# Altium schematic symbol library ON Semi Logic Latch.SchLib: 84 symbols (part 1 of 2)
Pins are listed as number, name and electrical type; pins without a type are passive.

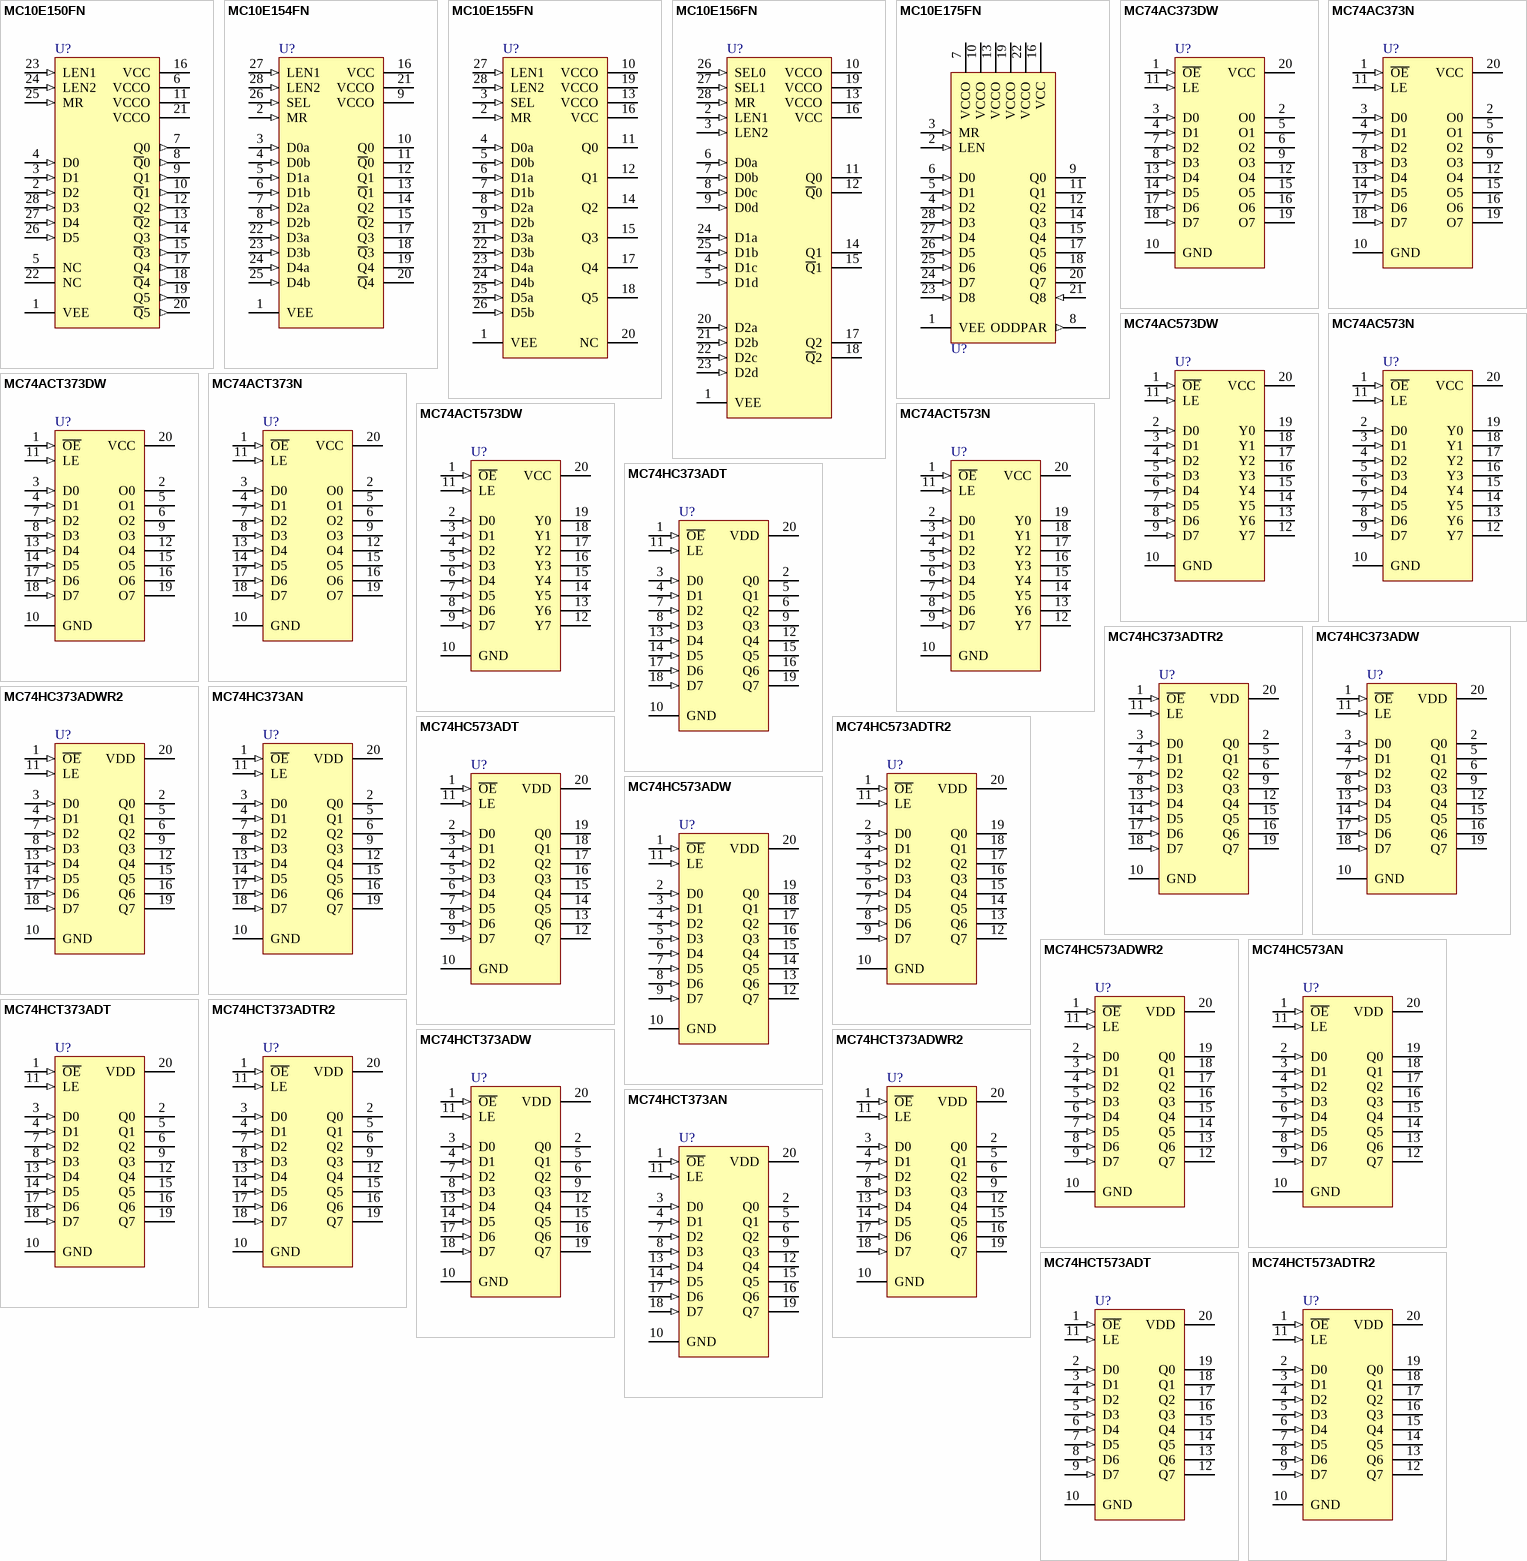
[diagram p0: symbols MC10E150FN to MC74HCT573ADTR2]

## MC10E150FN
designator U?
6-Bit D-Type Latch; Note: All VCC&VCCO pins are tied together on the die; Published: 15-Apr-2002; LatestRevisionDate: 13-Apr-2006; LatestRevisionNote: IPC-7351 Footprint Added.; DatasheetVersion: 1996; PackageVersion: Feb-2000; PackageReference: 776-02; Publisher: Altium Limited; PackageDescription: 28-Pin Leaded Chip Carrier 1.27 mm Pitch; ComponentLink1Description: Manufacturer Link; ComponentLink1URL: http://www.onsemi.com/; ComponentLink2Description: Datasheet; ComponentLink2URL: http://www.onsemi.com/pub/Collateral/MC10E150-D.PDF
footprint 776-02_N (Leaded Chip Carrier, 28-Leads, Body 11.5x11.5mm, Pitch 1.27mm, IPC Medium Density)
footprint 776-02_L (Leaded Chip Carrier, 28-Leads, Body 11.5x11.5mm, Pitch 1.27mm, IPC High Density)
footprint 776-02_M (Leaded Chip Carrier, 28-Leads, Body 11.5x11.5mm, Pitch 1.27mm, IPC Low Density)
pins: 1 VEE (power), 2 D2 (in), 3 D1 (in), 4 D0 (in), 5 NC, 6 VCCO (power), 7 Q0 (out), 8 ~{Q}0 (out), 9 Q1 (out), 10 ~{Q}1 (out), 11 VCCO (power), 12 Q2 (out), 13 ~{Q}2 (out), 14 Q3 (out), 15 ~{Q}3 (out), 16 VCC (power), 17 Q4 (out), 18 ~{Q}4 (out), 19 Q5 (out), 20 ~{Q}5 (out), 21 VCCO (power), 22 NC, 23 LEN1 (in), 24 LEN2 (in), 25 MR (in), 26 D5 (in), 27 D4 (in), 28 D3 (in)

## MC10E154FN
designator U?
5-Bit 2:1 Multiplexer-Latch; Note: All VCC&VCCO pins are tied together on the die; Published: 15-Apr-2002; LatestRevisionDate: 13-Apr-2006; LatestRevisionNote: IPC-7351 Footprint Added.; DatasheetVersion: 1996; PackageVersion: Feb-2000; PackageReference: 776-02; Publisher: Altium Limited; PackageDescription: 28-Pin Leaded Chip Carrier 1.27 mm Pitch; ComponentLink1Description: Manufacturer Link; ComponentLink1URL: http://www.onsemi.com/; ComponentLink2Description: Datasheet; ComponentLink2URL: http://www.onsemi.com/pub/Collateral/MC10E154-D.PDF
footprint 776-02_N (Leaded Chip Carrier, 28-Leads, Body 11.5x11.5mm, Pitch 1.27mm, IPC Medium Density)
footprint 776-02_L (Leaded Chip Carrier, 28-Leads, Body 11.5x11.5mm, Pitch 1.27mm, IPC High Density)
footprint 776-02_M (Leaded Chip Carrier, 28-Leads, Body 11.5x11.5mm, Pitch 1.27mm, IPC Low Density)
pins: 1 VEE (power), 2 MR (in), 3 D0a (in), 4 D0b (in), 5 D1a (in), 6 D1b (in), 7 D2a (in), 8 D2b (in), 9 VCCO (power), 10 Q0 (oe), 11 ~{Q}0 (oe), 12 Q1 (oe), 13 ~{Q}1 (oe), 14 Q2 (oe), 15 ~{Q}2 (oe), 16 VCC (power), 17 Q3 (oe), 18 ~{Q}3 (oe), 19 Q4 (oe), 20 ~{Q}4 (oe), 21 VCCO (power), 22 D3a (in), 23 D3b (in), 24 D4a (in), 25 D4b (in), 26 SEL (in), 27 LEN1 (in), 28 LEN2 (in)

## MC10E155FN
designator U?
6-Bit 2:1 Multiplexer-Latch; Note: All VCC&VCCO pins are tied together on the die; Published: 15-Apr-2002; LatestRevisionDate: 13-Apr-2006; LatestRevisionNote: IPC-7351 Footprint Added.; DatasheetVersion: 1996; PackageVersion: Feb-2000; PackageReference: 776-02; Publisher: Altium Limited; PackageDescription: 28-Pin Leaded Chip Carrier 1.27 mm Pitch; ComponentLink1Description: Manufacturer Link; ComponentLink1URL: http://www.onsemi.com/; ComponentLink2Description: Datasheet; ComponentLink2URL: http://www.onsemi.com/pub/Collateral/MC10E155-D.PDF
footprint 776-02_N (Leaded Chip Carrier, 28-Leads, Body 11.5x11.5mm, Pitch 1.27mm, IPC Medium Density)
footprint 776-02_L (Leaded Chip Carrier, 28-Leads, Body 11.5x11.5mm, Pitch 1.27mm, IPC High Density)
footprint 776-02_M (Leaded Chip Carrier, 28-Leads, Body 11.5x11.5mm, Pitch 1.27mm, IPC Low Density)
pins: 1 VEE (power), 2 MR (in), 3 SEL (in), 4 D0a (in), 5 D0b (in), 6 D1a (in), 7 D1b (in), 8 D2a (in), 9 D2b (in), 10 VCCO (power), 11 Q0 (oe), 12 Q1 (oe), 13 VCCO (power), 14 Q2 (oe), 15 Q3 (oe), 16 VCC (power), 17 Q4 (oe), 18 Q5 (oe), 19 VCCO (power), 20 NC, 21 D3a (in), 22 D3b (in), 23 D4a (in), 24 D4b (in), 25 D5a (in), 26 D5b (in), 27 LEN1 (in), 28 LEN2 (in)

## MC10E156FN
designator U?
3-Bit 4:1 Multiplexer-Latch; Note: All VCC&VCCO pins are tied together on the die; Published: 15-Apr-2002; LatestRevisionDate: 13-Apr-2006; LatestRevisionNote: IPC-7351 Footprint Added.; DatasheetVersion: 1996; PackageVersion: Feb-2000; PackageReference: 776-02; Publisher: Altium Limited; PackageDescription: 28-Pin Leaded Chip Carrier 1.27 mm Pitch; ComponentLink1Description: Manufacturer Link; ComponentLink1URL: http://www.onsemi.com/; ComponentLink2Description: Datasheet; ComponentLink2URL: http://www.onsemi.com/pub/Collateral/MC10E156-D.PDF
footprint 776-02_N (Leaded Chip Carrier, 28-Leads, Body 11.5x11.5mm, Pitch 1.27mm, IPC Medium Density)
footprint 776-02_L (Leaded Chip Carrier, 28-Leads, Body 11.5x11.5mm, Pitch 1.27mm, IPC High Density)
footprint 776-02_M (Leaded Chip Carrier, 28-Leads, Body 11.5x11.5mm, Pitch 1.27mm, IPC Low Density)
pins: 1 VEE (power), 2 LEN1 (in), 3 LEN2 (in), 4 D1c (in), 5 D1d (in), 6 D0a (in), 7 D0b (in), 8 D0c (in), 9 D0d (in), 10 VCCO (power), 11 Q0 (oe), 12 ~{Q}0 (oe), 13 VCCO (power), 14 Q1 (oe), 15 ~{Q}1 (oe), 16 VCC (power), 17 Q2 (oe), 18 ~{Q}2 (oe), 19 VCCO (power), 20 D2a (in), 21 D2b (in), 22 D2c (in), 23 D2d (in), 24 D1a (in), 25 D1b (in), 26 SEL0 (in), 27 SEL1 (in), 28 MR (in)

## MC10E175FN
designator U?
9-Bit Latch with Parity; Note: All VCC&VCCO pins are tied together on the die; Published: 15-Apr-2002; LatestRevisionDate: 13-Apr-2006; LatestRevisionNote: IPC-7351 Footprint Added.; DatasheetVersion: 1996; PackageVersion: Feb-2000; PackageReference: 776-02; Publisher: Altium Limited; PackageDescription: 28-Pin Leaded Chip Carrier 1.27 mm Pitch; ComponentLink1Description: Manufacturer Link; ComponentLink1URL: http://www.onsemi.com/; ComponentLink2Description: Datasheet; ComponentLink2URL: http://www.onsemi.com/pub/Collateral/MC10E175-D.PDF
footprint 776-02_N (Leaded Chip Carrier, 28-Leads, Body 11.5x11.5mm, Pitch 1.27mm, IPC Medium Density)
footprint 776-02_L (Leaded Chip Carrier, 28-Leads, Body 11.5x11.5mm, Pitch 1.27mm, IPC High Density)
footprint 776-02_M (Leaded Chip Carrier, 28-Leads, Body 11.5x11.5mm, Pitch 1.27mm, IPC Low Density)
pins: 1 VEE (power), 2 LEN (in), 3 MR (in), 4 D2 (in), 5 D1 (in), 6 D0 (in), 7 VCCO (power), 8 ODDPAR (out), 9 Q0 (oe), 10 VCCO (power), 11 Q1 (oe), 12 Q2 (oe), 13 VCCO (power), 14 Q3 (oe), 15 Q4 (oe), 16 VCC (power), 17 Q5 (oe), 18 Q6 (oe), 19 VCCO (power), 20 Q7 (oe), 21 Q8 (in), 22 VCCO (power), 23 D8 (in), 24 D7 (in), 25 D6 (in), 26 D5 (in), 27 D4 (in), 28 D3 (in)

## MC74AC373DW
designator U?
Octal Transparent Latch with 3-State Outputs; Published: 15-Apr-2002; LatestRevisionDate: 13-Apr-2006; LatestRevisionNote: IPC-7351 Footprint Added.; DatasheetVersion: 8-Apr-1996; PackageReference: 751D-04; Publisher: Altium Limited; PackageDescription: 20-Pin Small Outline Integrated Circuit 1.27 mm Pitch; ComponentLink1Description: Manufacturer Link; ComponentLink1URL: http://www.onsemi.com/; ComponentLink2Description: Datasheet; ComponentLink2URL: http://www.onsemi.com/pub/Collateral/MC74AC373-D.PDF
footprint 751D-04_N (SOIC, 20-Leads, Body 12.8x7.5mm, Pitch 1.27mm, IPC Medium Density)
footprint 751D-04_L (SOIC, 20-Leads, Body 12.8x7.5mm, Pitch 1.27mm, IPC High Density)
footprint 751D-04_M (SOIC, 20-Leads, Body 12.8x7.5mm, Pitch 1.27mm, IPC Low Density)
signal-integrity model MC74AC373DW
pins: 1 ~{OE} (in), 2 O0 (hiz), 3 D0 (in), 4 D1 (in), 5 O1 (hiz), 6 O2 (hiz), 7 D2 (in), 8 D3 (in), 9 O3 (hiz), 10 GND (power), 11 LE (in), 12 O4 (hiz), 13 D4 (in), 14 D5 (in), 15 O5 (hiz), 16 O6 (hiz), 17 D6 (in), 18 D7 (in), 19 O7 (hiz), 20 VCC (power)

## MC74AC373N
designator U?
Octal Transparent Latch with 3-State Outputs; Published: 15-Apr-2002; DatasheetVersion: 8-Apr-1996; PackageVersion: 1996; PackageReference: 738-03; Publisher: Altium Limited; PackageDescription: DIP; 20 Leads; Row Spacing 7.62 mm; Pitch 2.54 mm; Code_JEDEC: MS-001-AD; ComponentLink1Description: Manufacturer Link; ComponentLink1URL: http://www.onsemi.com/; ComponentLink2Description: Datasheet; ComponentLink2URL: http://www.onsemi.com/pub/Collateral/MC74AC373-D.PDF
footprint 738-03 (DIP; 20 Leads; Row Spacing 7.62 mm; Pitch 2.54 mm)
signal-integrity model MC74AC373N
pins: 1 ~{OE} (in), 2 O0 (hiz), 3 D0 (in), 4 D1 (in), 5 O1 (hiz), 6 O2 (hiz), 7 D2 (in), 8 D3 (in), 9 O3 (hiz), 10 GND (power), 11 LE (in), 12 O4 (hiz), 13 D4 (in), 14 D5 (in), 15 O5 (hiz), 16 O6 (hiz), 17 D6 (in), 18 D7 (in), 19 O7 (hiz), 20 VCC (power)

## MC74AC573DW
designator U?
Octal D-Type Latch with 3-State Outputs; Published: 15-Apr-2002; LatestRevisionDate: 27-Jun-2008; LatestRevisionNote: Swapped schematic pins 7 & 8.; DatasheetVersion: 9-Apr-1996; PackageReference: 751D-04; Publisher: Altium Limited; PackageDescription: 20-Pin Small Outline Integrated Circuit 1.27 mm Pitch; ComponentLink1Description: Manufacturer Link; ComponentLink1URL: http://www.onsemi.com/; ComponentLink2Description: Datasheet; ComponentLink2URL: http://www.onsemi.com/pub/Collateral/MC74AC573-D.PDF
footprint 751D-04_N (SOIC, 20-Leads, Body 12.8x7.5mm, Pitch 1.27mm, IPC Medium Density)
footprint 751D-04_L (SOIC, 20-Leads, Body 12.8x7.5mm, Pitch 1.27mm, IPC High Density)
footprint 751D-04_M (SOIC, 20-Leads, Body 12.8x7.5mm, Pitch 1.27mm, IPC Low Density)
signal-integrity model MC74AC573DW
pins: 1 ~{OE} (in), 2 D0 (in), 3 D1 (in), 4 D2 (in), 5 D3 (in), 6 D4 (in), 7 D5 (in), 8 D6 (in), 9 D7 (in), 10 GND (power), 11 LE (in), 12 Y7 (hiz), 13 Y6 (hiz), 14 Y5 (hiz), 15 Y4 (hiz), 16 Y3 (hiz), 17 Y2 (hiz), 18 Y1 (hiz), 19 Y0 (hiz), 20 VCC (power)

## MC74AC573N
designator U?
Octal D-Type Latch with 3-State Outputs; Published: 15-Apr-2002; LatestRevisionDate: 27-Jun-2008; LatestRevisionNote: Swapped schematic pins 7 & 8.; DatasheetVersion: 9-Apr-1996; PackageVersion: 1996; PackageReference: 738-03; Publisher: Altium Limited; PackageDescription: DIP; 20 Leads; Row Spacing 7.62 mm; Pitch 2.54 mm; Code_JEDEC: MS-001-AD; ComponentLink1Description: Manufacturer Link; ComponentLink1URL: http://www.onsemi.com/; ComponentLink2Description: Datasheet; ComponentLink2URL: http://www.onsemi.com/pub/Collateral/MC74AC573-D.PDF
footprint 738-03 (DIP; 20 Leads; Row Spacing 7.62 mm; Pitch 2.54 mm)
signal-integrity model MC74AC573N
pins: 1 ~{OE} (in), 2 D0 (in), 3 D1 (in), 4 D2 (in), 5 D3 (in), 6 D4 (in), 7 D5 (in), 8 D6 (in), 9 D7 (in), 10 GND (power), 11 LE (in), 12 Y7 (hiz), 13 Y6 (hiz), 14 Y5 (hiz), 15 Y4 (hiz), 16 Y3 (hiz), 17 Y2 (hiz), 18 Y1 (hiz), 19 Y0 (hiz), 20 VCC (power)

## MC74ACT373DW
designator U?
Octal Transparent Latch with 3-State Outputs; Published: 15-Apr-2002; LatestRevisionDate: 13-Apr-2006; LatestRevisionNote: IPC-7351 Footprint Added.; DatasheetVersion: 8-Apr-1996; PackageReference: 751D-04; Publisher: Altium Limited; PackageDescription: 20-Pin Small Outline Integrated Circuit 1.27 mm Pitch; ComponentLink1Description: Manufacturer Link; ComponentLink1URL: http://www.onsemi.com/; ComponentLink2Description: Datasheet; ComponentLink2URL: http://www.onsemi.com/pub/Collateral/MC74AC373-D.PDF
footprint 751D-04_N (SOIC, 20-Leads, Body 12.8x7.5mm, Pitch 1.27mm, IPC Medium Density)
footprint 751D-04_L (SOIC, 20-Leads, Body 12.8x7.5mm, Pitch 1.27mm, IPC High Density)
footprint 751D-04_M (SOIC, 20-Leads, Body 12.8x7.5mm, Pitch 1.27mm, IPC Low Density)
signal-integrity model MC74ACT373DW
pins: 1 ~{OE} (in), 2 O0 (hiz), 3 D0 (in), 4 D1 (in), 5 O1 (hiz), 6 O2 (hiz), 7 D2 (in), 8 D3 (in), 9 O3 (hiz), 10 GND (power), 11 LE (in), 12 O4 (hiz), 13 D4 (in), 14 D5 (in), 15 O5 (hiz), 16 O6 (hiz), 17 D6 (in), 18 D7 (in), 19 O7 (hiz), 20 VCC (power)

## MC74ACT373N
designator U?
Octal Transparent Latch with 3-State Outputs; Published: 15-Apr-2002; DatasheetVersion: 8-Apr-1996; PackageVersion: 1996; PackageReference: 738-03; Publisher: Altium Limited; PackageDescription: DIP; 20 Leads; Row Spacing 7.62 mm; Pitch 2.54 mm; Code_JEDEC: MS-001-AD; ComponentLink1Description: Manufacturer Link; ComponentLink1URL: http://www.onsemi.com/; ComponentLink2Description: Datasheet; ComponentLink2URL: http://www.onsemi.com/pub/Collateral/MC74AC373-D.PDF
footprint 738-03 (DIP; 20 Leads; Row Spacing 7.62 mm; Pitch 2.54 mm)
signal-integrity model MC74ACT373N
pins: 1 ~{OE} (in), 2 O0 (hiz), 3 D0 (in), 4 D1 (in), 5 O1 (hiz), 6 O2 (hiz), 7 D2 (in), 8 D3 (in), 9 O3 (hiz), 10 GND (power), 11 LE (in), 12 O4 (hiz), 13 D4 (in), 14 D5 (in), 15 O5 (hiz), 16 O6 (hiz), 17 D6 (in), 18 D7 (in), 19 O7 (hiz), 20 VCC (power)

## MC74ACT573DW
designator U?
Octal D-Type Latch with 3-State Outputs; Published: 15-Apr-2002; LatestRevisionDate: 27-Jun-2008; LatestRevisionNote: Swapped schematic pins 7 & 8.; DatasheetVersion: 9-Apr-1996; PackageReference: 751D-04; Publisher: Altium Limited; PackageDescription: 20-Pin Small Outline Integrated Circuit 1.27 mm Pitch; ComponentLink1Description: Manufacturer Link; ComponentLink1URL: http://www.onsemi.com/; ComponentLink2Description: Datasheet; ComponentLink2URL: http://www.onsemi.com/pub/Collateral/MC74AC573-D.PDF
footprint 751D-04_N (SOIC, 20-Leads, Body 12.8x7.5mm, Pitch 1.27mm, IPC Medium Density)
footprint 751D-04_L (SOIC, 20-Leads, Body 12.8x7.5mm, Pitch 1.27mm, IPC High Density)
footprint 751D-04_M (SOIC, 20-Leads, Body 12.8x7.5mm, Pitch 1.27mm, IPC Low Density)
signal-integrity model MC74ACT573DW
pins: 1 ~{OE} (in), 2 D0 (in), 3 D1 (in), 4 D2 (in), 5 D3 (in), 6 D4 (in), 7 D5 (in), 8 D6 (in), 9 D7 (in), 10 GND (power), 11 LE (in), 12 Y7 (hiz), 13 Y6 (hiz), 14 Y5 (hiz), 15 Y4 (hiz), 16 Y3 (hiz), 17 Y2 (hiz), 18 Y1 (hiz), 19 Y0 (hiz), 20 VCC (power)

## MC74ACT573N
designator U?
Octal D-Type Latch with 3-State Outputs; Published: 15-Apr-2002; LatestRevisionDate: 27-Jun-2008; LatestRevisionNote: Swapped schematic pins 7 & 8.; DatasheetVersion: 9-Apr-1996; PackageVersion: 1996; PackageReference: 738-03; Publisher: Altium Limited; PackageDescription: DIP; 20 Leads; Row Spacing 7.62 mm; Pitch 2.54 mm; Code_JEDEC: MS-001-AD; ComponentLink1Description: Manufacturer Link; ComponentLink1URL: http://www.onsemi.com/; ComponentLink2Description: Datasheet; ComponentLink2URL: http://www.onsemi.com/pub/Collateral/MC74AC573-D.PDF
footprint 738-03 (DIP; 20 Leads; Row Spacing 7.62 mm; Pitch 2.54 mm)
signal-integrity model MC74ACT573N
pins: 1 ~{OE} (in), 2 D0 (in), 3 D1 (in), 4 D2 (in), 5 D3 (in), 6 D4 (in), 7 D5 (in), 8 D6 (in), 9 D7 (in), 10 GND (power), 11 LE (in), 12 Y7 (hiz), 13 Y6 (hiz), 14 Y5 (hiz), 15 Y4 (hiz), 16 Y3 (hiz), 17 Y2 (hiz), 18 Y1 (hiz), 19 Y0 (hiz), 20 VCC (power)

## MC74HC373ADT
designator U?
Octal 3-State Non-Inverting Transparent Latch; Published: 15-Apr-2002; LatestRevisionDate: 12-Dec-2006; LatestRevisionNote: IPC-7351 Footprint Added.; DatasheetVersion: Mar-2000; PackageVersion: Mar-2000; PackageReference: 948E-02; Publisher: Altium Limited; PackageDescription: 20-Pin Thin Small Outline Package 0.65 mm Pitch; ComponentLink1Description: Manufacturer Link; ComponentLink1URL: http://www.onsemi.com/; ComponentLink2Description: Datasheet; ComponentLink2URL: http://www.onsemi.com/pub/Collateral/MC74HC373A-D.PDF
footprint 948E-02_N (TSOP, 20-Leads, Body 6.5x4.4mm, Pitch 0.65mm, IPC Medium Density)
footprint 948E-02_L (TSOP, 20-Leads, Body 6.5x4.4mm, Pitch 0.65mm, IPC High Density)
footprint 948E-02_M (TSOP, 20-Leads, Body 6.5x4.4mm, Pitch 0.65mm, IPC Low Density)
signal-integrity model MC74HC373ADT
pins: 1 ~{OE} (in), 2 Q0 (hiz), 3 D0 (in), 4 D1 (in), 5 Q1 (hiz), 6 Q2 (hiz), 7 D2 (in), 8 D3 (in), 9 Q3 (hiz), 10 GND (power), 11 LE (in), 12 Q4 (hiz), 13 D4 (in), 14 D5 (in), 15 Q5 (hiz), 16 Q6 (hiz), 17 D6 (in), 18 D7 (in), 19 Q7 (hiz), 20 VDD (power)

## MC74HC373ADTR2
designator U?
Octal 3-State Non-Inverting Transparent Latch; Published: 15-Apr-2002; LatestRevisionDate: 12-Dec-2006; LatestRevisionNote: IPC-7351 Footprint Added.; DatasheetVersion: Mar-2000; PackageVersion: Mar-2000; PackageReference: 948E-02; Publisher: Altium Limited; PackageDescription: 20-Pin Thin Small Outline Package 0.65 mm Pitch; ComponentLink1Description: Manufacturer Link; ComponentLink1URL: http://www.onsemi.com/; ComponentLink2Description: Datasheet; ComponentLink2URL: http://www.onsemi.com/pub/Collateral/MC74HC373A-D.PDF
footprint 948E-02_N (TSOP, 20-Leads, Body 6.5x4.4mm, Pitch 0.65mm, IPC Medium Density)
footprint 948E-02_L (TSOP, 20-Leads, Body 6.5x4.4mm, Pitch 0.65mm, IPC High Density)
footprint 948E-02_M (TSOP, 20-Leads, Body 6.5x4.4mm, Pitch 0.65mm, IPC Low Density)
signal-integrity model MC74HC373ADTR2
pins: 1 ~{OE} (in), 2 Q0 (hiz), 3 D0 (in), 4 D1 (in), 5 Q1 (hiz), 6 Q2 (hiz), 7 D2 (in), 8 D3 (in), 9 Q3 (hiz), 10 GND (power), 11 LE (in), 12 Q4 (hiz), 13 D4 (in), 14 D5 (in), 15 Q5 (hiz), 16 Q6 (hiz), 17 D6 (in), 18 D7 (in), 19 Q7 (hiz), 20 VDD (power)

## MC74HC373ADW
designator U?
Octal 3-State Non-Inverting Transparent Latch; Published: 15-Apr-2002; LatestRevisionDate: 13-Apr-2006; LatestRevisionNote: IPC-7351 Footprint Added.; DatasheetVersion: Mar-2000; PackageReference: 751D-05; Publisher: Altium Limited; PackageDescription: 20-Pin Small Outline Integrated Circuit 1.27 mm Pitch; ComponentLink1Description: Manufacturer Link; ComponentLink1URL: http://www.onsemi.com/; ComponentLink2Description: Datasheet; ComponentLink2URL: http://www.onsemi.com/pub/Collateral/MC74HC373A-D.PDF
footprint 751D-05_N (SOIC, 20-Leads, Body 12.8x7.5mm, Pitch 1.27mm, IPC Medium Density)
footprint 751D-05_L (SOIC, 20-Leads, Body 12.8x7.5mm, Pitch 1.27mm, IPC High Density)
footprint 751D-05_M (SOIC, 20-Leads, Body 12.8x7.5mm, Pitch 1.27mm, IPC Low Density)
signal-integrity model MC74HC373ADW
pins: 1 ~{OE} (in), 2 Q0 (hiz), 3 D0 (in), 4 D1 (in), 5 Q1 (hiz), 6 Q2 (hiz), 7 D2 (in), 8 D3 (in), 9 Q3 (hiz), 10 GND (power), 11 LE (in), 12 Q4 (hiz), 13 D4 (in), 14 D5 (in), 15 Q5 (hiz), 16 Q6 (hiz), 17 D6 (in), 18 D7 (in), 19 Q7 (hiz), 20 VDD (power)

## MC74HC373ADWR2
designator U?
Octal 3-State Non-Inverting Transparent Latch; Published: 15-Apr-2002; LatestRevisionDate: 13-Apr-2006; LatestRevisionNote: IPC-7351 Footprint Added.; DatasheetVersion: Mar-2000; PackageReference: 751D-05; Publisher: Altium Limited; PackageDescription: 20-Pin Small Outline Integrated Circuit 1.27 mm Pitch; ComponentLink1Description: Manufacturer Link; ComponentLink1URL: http://www.onsemi.com/; ComponentLink2Description: Datasheet; ComponentLink2URL: http://www.onsemi.com/pub/Collateral/MC74HC373A-D.PDF
footprint 751D-05_N (SOIC, 20-Leads, Body 12.8x7.5mm, Pitch 1.27mm, IPC Medium Density)
footprint 751D-05_L (SOIC, 20-Leads, Body 12.8x7.5mm, Pitch 1.27mm, IPC High Density)
footprint 751D-05_M (SOIC, 20-Leads, Body 12.8x7.5mm, Pitch 1.27mm, IPC Low Density)
signal-integrity model MC74HC373ADWR2
pins: 1 ~{OE} (in), 2 Q0 (hiz), 3 D0 (in), 4 D1 (in), 5 Q1 (hiz), 6 Q2 (hiz), 7 D2 (in), 8 D3 (in), 9 Q3 (hiz), 10 GND (power), 11 LE (in), 12 Q4 (hiz), 13 D4 (in), 14 D5 (in), 15 Q5 (hiz), 16 Q6 (hiz), 17 D6 (in), 18 D7 (in), 19 Q7 (hiz), 20 VDD (power)

## MC74HC373AN
designator U?
Octal 3-State Non-Inverting Transparent Latch; Published: 15-Apr-2002; DatasheetVersion: Mar-2000; PackageVersion: 1996; PackageReference: 738-03; Publisher: Altium Limited; PackageDescription: DIP; 20 Leads; Row Spacing 7.62 mm; Pitch 2.54 mm; Code_JEDEC: MS-001-AD; ComponentLink1Description: Manufacturer Link; ComponentLink1URL: http://www.onsemi.com/; ComponentLink2Description: Datasheet; ComponentLink2URL: http://www.onsemi.com/pub/Collateral/MC74HC373A-D.PDF
footprint 738-03 (DIP; 20 Leads; Row Spacing 7.62 mm; Pitch 2.54 mm)
signal-integrity model MC74HC373AN
pins: 1 ~{OE} (in), 2 Q0 (hiz), 3 D0 (in), 4 D1 (in), 5 Q1 (hiz), 6 Q2 (hiz), 7 D2 (in), 8 D3 (in), 9 Q3 (hiz), 10 GND (power), 11 LE (in), 12 Q4 (hiz), 13 D4 (in), 14 D5 (in), 15 Q5 (hiz), 16 Q6 (hiz), 17 D6 (in), 18 D7 (in), 19 Q7 (hiz), 20 VDD (power)

## MC74HC573ADT
designator U?
Octal 3-State Non-Inverting Transparent Latch; Published: 15-Apr-2002; LatestRevisionDate: 12-Dec-2006; LatestRevisionNote: IPC-7351 Footprint Added.; DatasheetVersion: Mar-2000; PackageVersion: Mar-2000; PackageReference: 948E-02; Publisher: Altium Limited; PackageDescription: 20-Pin Thin Small Outline Package 0.65 mm Pitch; ComponentLink1Description: Manufacturer Link; ComponentLink1URL: http://www.onsemi.com/; ComponentLink2Description: Datasheet; ComponentLink2URL: http://www.onsemi.com/pub/Collateral/MC74HC573A-D.PDF
footprint 948E-02_N (TSOP, 20-Leads, Body 6.5x4.4mm, Pitch 0.65mm, IPC Medium Density)
footprint 948E-02_L (TSOP, 20-Leads, Body 6.5x4.4mm, Pitch 0.65mm, IPC High Density)
footprint 948E-02_M (TSOP, 20-Leads, Body 6.5x4.4mm, Pitch 0.65mm, IPC Low Density)
signal-integrity model MC74HC573ADT
pins: 1 ~{OE} (in), 2 D0 (in), 3 D1 (in), 4 D2 (in), 5 D3 (in), 6 D4 (in), 7 D5 (in), 8 D6 (in), 9 D7 (in), 10 GND (power), 11 LE (in), 12 Q7 (hiz), 13 Q6 (hiz), 14 Q5 (hiz), 15 Q4 (hiz), 16 Q3 (hiz), 17 Q2 (hiz), 18 Q1 (hiz), 19 Q0 (hiz), 20 VDD (power)

## MC74HC573ADTR2
designator U?
Octal 3-State Non-Inverting Transparent Latch; Published: 15-Apr-2002; LatestRevisionDate: 12-Dec-2006; LatestRevisionNote: IPC-7351 Footprint Added.; DatasheetVersion: Mar-2000; PackageVersion: Mar-2000; PackageReference: 948E-02; Publisher: Altium Limited; PackageDescription: 20-Pin Thin Small Outline Package 0.65 mm Pitch; ComponentLink1Description: Manufacturer Link; ComponentLink1URL: http://www.onsemi.com/; ComponentLink2Description: Datasheet; ComponentLink2URL: http://www.onsemi.com/pub/Collateral/MC74HC573A-D.PDF
footprint 948E-02_N (TSOP, 20-Leads, Body 6.5x4.4mm, Pitch 0.65mm, IPC Medium Density)
footprint 948E-02_L (TSOP, 20-Leads, Body 6.5x4.4mm, Pitch 0.65mm, IPC High Density)
footprint 948E-02_M (TSOP, 20-Leads, Body 6.5x4.4mm, Pitch 0.65mm, IPC Low Density)
signal-integrity model MC74HC573ADTR2
pins: 1 ~{OE} (in), 2 D0 (in), 3 D1 (in), 4 D2 (in), 5 D3 (in), 6 D4 (in), 7 D5 (in), 8 D6 (in), 9 D7 (in), 10 GND (power), 11 LE (in), 12 Q7 (hiz), 13 Q6 (hiz), 14 Q5 (hiz), 15 Q4 (hiz), 16 Q3 (hiz), 17 Q2 (hiz), 18 Q1 (hiz), 19 Q0 (hiz), 20 VDD (power)

## MC74HC573ADW
designator U?
Octal 3-State Non-Inverting Transparent Latch; Published: 15-Apr-2002; LatestRevisionDate: 13-Apr-2006; LatestRevisionNote: IPC-7351 Footprint Added.; DatasheetVersion: Mar-2000; PackageReference: 751D-05; Publisher: Altium Limited; PackageDescription: 20-Pin Small Outline Integrated Circuit 1.27 mm Pitch; ComponentLink1Description: Manufacturer Link; ComponentLink1URL: http://www.onsemi.com/; ComponentLink2Description: Datasheet; ComponentLink2URL: http://www.onsemi.com/pub/Collateral/MC74HC573A-D.PDF
footprint 751D-05_N (SOIC, 20-Leads, Body 12.8x7.5mm, Pitch 1.27mm, IPC Medium Density)
footprint 751D-05_L (SOIC, 20-Leads, Body 12.8x7.5mm, Pitch 1.27mm, IPC High Density)
footprint 751D-05_M (SOIC, 20-Leads, Body 12.8x7.5mm, Pitch 1.27mm, IPC Low Density)
signal-integrity model MC74HC573ADW
pins: 1 ~{OE} (in), 2 D0 (in), 3 D1 (in), 4 D2 (in), 5 D3 (in), 6 D4 (in), 7 D5 (in), 8 D6 (in), 9 D7 (in), 10 GND (power), 11 LE (in), 12 Q7 (hiz), 13 Q6 (hiz), 14 Q5 (hiz), 15 Q4 (hiz), 16 Q3 (hiz), 17 Q2 (hiz), 18 Q1 (hiz), 19 Q0 (hiz), 20 VDD (power)

## MC74HC573ADWR2
designator U?
Octal 3-State Non-Inverting Transparent Latch; Published: 15-Apr-2002; LatestRevisionDate: 13-Apr-2006; LatestRevisionNote: IPC-7351 Footprint Added.; DatasheetVersion: Mar-2000; PackageReference: 751D-05; Publisher: Altium Limited; PackageDescription: 20-Pin Small Outline Integrated Circuit 1.27 mm Pitch; ComponentLink1Description: Manufacturer Link; ComponentLink1URL: http://www.onsemi.com/; ComponentLink2Description: Datasheet; ComponentLink2URL: http://www.onsemi.com/pub/Collateral/MC74HC573A-D.PDF
footprint 751D-05_N (SOIC, 20-Leads, Body 12.8x7.5mm, Pitch 1.27mm, IPC Medium Density)
footprint 751D-05_L (SOIC, 20-Leads, Body 12.8x7.5mm, Pitch 1.27mm, IPC High Density)
footprint 751D-05_M (SOIC, 20-Leads, Body 12.8x7.5mm, Pitch 1.27mm, IPC Low Density)
signal-integrity model MC74HC573ADWR2
pins: 1 ~{OE} (in), 2 D0 (in), 3 D1 (in), 4 D2 (in), 5 D3 (in), 6 D4 (in), 7 D5 (in), 8 D6 (in), 9 D7 (in), 10 GND (power), 11 LE (in), 12 Q7 (hiz), 13 Q6 (hiz), 14 Q5 (hiz), 15 Q4 (hiz), 16 Q3 (hiz), 17 Q2 (hiz), 18 Q1 (hiz), 19 Q0 (hiz), 20 VDD (power)

## MC74HC573AN
designator U?
Octal 3-State Non-Inverting Transparent Latch; Published: 15-Apr-2002; DatasheetVersion: Mar-2000; PackageVersion: 1996; PackageReference: 738-03; Publisher: Altium Limited; PackageDescription: DIP; 20 Leads; Row Spacing 7.62 mm; Pitch 2.54 mm; Code_JEDEC: MS-001-AD; ComponentLink1Description: Manufacturer Link; ComponentLink1URL: http://www.onsemi.com/; ComponentLink2Description: Datasheet; ComponentLink2URL: http://www.onsemi.com/pub/Collateral/MC74HC573A-D.PDF
footprint 738-03 (DIP; 20 Leads; Row Spacing 7.62 mm; Pitch 2.54 mm)
signal-integrity model MC74HC573AN
pins: 1 ~{OE} (in), 2 D0 (in), 3 D1 (in), 4 D2 (in), 5 D3 (in), 6 D4 (in), 7 D5 (in), 8 D6 (in), 9 D7 (in), 10 GND (power), 11 LE (in), 12 Q7 (hiz), 13 Q6 (hiz), 14 Q5 (hiz), 15 Q4 (hiz), 16 Q3 (hiz), 17 Q2 (hiz), 18 Q1 (hiz), 19 Q0 (hiz), 20 VDD (power)

## MC74HCT373ADT
designator U?
Octal 3-State Non-Inverting Transparent Latch with LSTTL-Compatible Inputs; Published: 15-Apr-2002; LatestRevisionDate: 12-Dec-2006; LatestRevisionNote: IPC-7351 Footprint Added.; DatasheetVersion: Mar-2000; PackageVersion: Mar-2000; PackageReference: 948E-02; Publisher: Altium Limited; PackageDescription: 20-Pin Thin Small Outline Package 0.65 mm Pitch; ComponentLink1Description: Manufacturer Link; ComponentLink1URL: http://www.onsemi.com/; ComponentLink2Description: Datasheet; ComponentLink2URL: http://www.onsemi.com/pub/Collateral/MC74HCT373A-D.PDF
footprint 948E-02_N (TSOP, 20-Leads, Body 6.5x4.4mm, Pitch 0.65mm, IPC Medium Density)
footprint 948E-02_L (TSOP, 20-Leads, Body 6.5x4.4mm, Pitch 0.65mm, IPC High Density)
footprint 948E-02_M (TSOP, 20-Leads, Body 6.5x4.4mm, Pitch 0.65mm, IPC Low Density)
signal-integrity model MC74HCT373ADT
pins: 1 ~{OE} (in), 2 Q0 (hiz), 3 D0 (in), 4 D1 (in), 5 Q1 (hiz), 6 Q2 (hiz), 7 D2 (in), 8 D3 (in), 9 Q3 (hiz), 10 GND (power), 11 LE (in), 12 Q4 (hiz), 13 D4 (in), 14 D5 (in), 15 Q5 (hiz), 16 Q6 (hiz), 17 D6 (in), 18 D7 (in), 19 Q7 (hiz), 20 VDD (power)

## MC74HCT373ADTR2
designator U?
Octal 3-State Non-Inverting Transparent Latch with LSTTL-Compatible Inputs; Published: 15-Apr-2002; LatestRevisionDate: 12-Dec-2006; LatestRevisionNote: IPC-7351 Footprint Added.; DatasheetVersion: Mar-2000; PackageVersion: Mar-2000; PackageReference: 948E-02; Publisher: Altium Limited; PackageDescription: 20-Pin Thin Small Outline Package 0.65 mm Pitch; ComponentLink1Description: Manufacturer Link; ComponentLink1URL: http://www.onsemi.com/; ComponentLink2Description: Datasheet; ComponentLink2URL: http://www.onsemi.com/pub/Collateral/MC74HCT373A-D.PDF
footprint 948E-02_N (TSOP, 20-Leads, Body 6.5x4.4mm, Pitch 0.65mm, IPC Medium Density)
footprint 948E-02_L (TSOP, 20-Leads, Body 6.5x4.4mm, Pitch 0.65mm, IPC High Density)
footprint 948E-02_M (TSOP, 20-Leads, Body 6.5x4.4mm, Pitch 0.65mm, IPC Low Density)
signal-integrity model MC74HCT373ADTR2
pins: 1 ~{OE} (in), 2 Q0 (hiz), 3 D0 (in), 4 D1 (in), 5 Q1 (hiz), 6 Q2 (hiz), 7 D2 (in), 8 D3 (in), 9 Q3 (hiz), 10 GND (power), 11 LE (in), 12 Q4 (hiz), 13 D4 (in), 14 D5 (in), 15 Q5 (hiz), 16 Q6 (hiz), 17 D6 (in), 18 D7 (in), 19 Q7 (hiz), 20 VDD (power)

## MC74HCT373ADW
designator U?
Octal 3-State Non-Inverting Transparent Latch with LSTTL-Compatible Inputs; Published: 15-Apr-2002; LatestRevisionDate: 13-Apr-2006; LatestRevisionNote: IPC-7351 Footprint Added.; DatasheetVersion: Mar-2000; PackageReference: 751D-05; Publisher: Altium Limited; PackageDescription: 20-Pin Small Outline Integrated Circuit 1.27 mm Pitch; ComponentLink1Description: Manufacturer Link; ComponentLink1URL: http://www.onsemi.com/; ComponentLink2Description: Datasheet; ComponentLink2URL: http://www.onsemi.com/pub/Collateral/MC74HCT373A-D.PDF
footprint 751D-05_N (SOIC, 20-Leads, Body 12.8x7.5mm, Pitch 1.27mm, IPC Medium Density)
footprint 751D-05_L (SOIC, 20-Leads, Body 12.8x7.5mm, Pitch 1.27mm, IPC High Density)
footprint 751D-05_M (SOIC, 20-Leads, Body 12.8x7.5mm, Pitch 1.27mm, IPC Low Density)
signal-integrity model MC74HCT373ADW
pins: 1 ~{OE} (in), 2 Q0 (hiz), 3 D0 (in), 4 D1 (in), 5 Q1 (hiz), 6 Q2 (hiz), 7 D2 (in), 8 D3 (in), 9 Q3 (hiz), 10 GND (power), 11 LE (in), 12 Q4 (hiz), 13 D4 (in), 14 D5 (in), 15 Q5 (hiz), 16 Q6 (hiz), 17 D6 (in), 18 D7 (in), 19 Q7 (hiz), 20 VDD (power)

## MC74HCT373ADWR2
designator U?
Octal 3-State Non-Inverting Transparent Latch with LSTTL-Compatible Inputs; Published: 15-Apr-2002; LatestRevisionDate: 13-Apr-2006; LatestRevisionNote: IPC-7351 Footprint Added.; DatasheetVersion: Mar-2000; PackageReference: 751D-05; Publisher: Altium Limited; PackageDescription: 20-Pin Small Outline Integrated Circuit 1.27 mm Pitch; ComponentLink1Description: Manufacturer Link; ComponentLink1URL: http://www.onsemi.com/; ComponentLink2Description: Datasheet; ComponentLink2URL: http://www.onsemi.com/pub/Collateral/MC74HCT373A-D.PDF
footprint 751D-05_N (SOIC, 20-Leads, Body 12.8x7.5mm, Pitch 1.27mm, IPC Medium Density)
footprint 751D-05_L (SOIC, 20-Leads, Body 12.8x7.5mm, Pitch 1.27mm, IPC High Density)
footprint 751D-05_M (SOIC, 20-Leads, Body 12.8x7.5mm, Pitch 1.27mm, IPC Low Density)
signal-integrity model MC74HCT373ADWR2
pins: 1 ~{OE} (in), 2 Q0 (hiz), 3 D0 (in), 4 D1 (in), 5 Q1 (hiz), 6 Q2 (hiz), 7 D2 (in), 8 D3 (in), 9 Q3 (hiz), 10 GND (power), 11 LE (in), 12 Q4 (hiz), 13 D4 (in), 14 D5 (in), 15 Q5 (hiz), 16 Q6 (hiz), 17 D6 (in), 18 D7 (in), 19 Q7 (hiz), 20 VDD (power)

## MC74HCT373AN
designator U?
Octal 3-State Non-Inverting Transparent Latch with LSTTL-Compatible Inputs; Published: 15-Apr-2002; DatasheetVersion: Mar-2000; PackageVersion: 1996; PackageReference: 738-03; Publisher: Altium Limited; PackageDescription: DIP; 20 Leads; Row Spacing 7.62 mm; Pitch 2.54 mm; Code_JEDEC: MS-001-AD; ComponentLink1Description: Manufacturer Link; ComponentLink1URL: http://www.onsemi.com/; ComponentLink2Description: Datasheet; ComponentLink2URL: http://www.onsemi.com/pub/Collateral/MC74HCT373A-D.PDF
footprint 738-03 (DIP; 20 Leads; Row Spacing 7.62 mm; Pitch 2.54 mm)
signal-integrity model MC74HCT373AN
pins: 1 ~{OE} (in), 2 Q0 (hiz), 3 D0 (in), 4 D1 (in), 5 Q1 (hiz), 6 Q2 (hiz), 7 D2 (in), 8 D3 (in), 9 Q3 (hiz), 10 GND (power), 11 LE (in), 12 Q4 (hiz), 13 D4 (in), 14 D5 (in), 15 Q5 (hiz), 16 Q6 (hiz), 17 D6 (in), 18 D7 (in), 19 Q7 (hiz), 20 VDD (power)

## MC74HCT573ADT
designator U?
Octal 3-State Non-Inverting Transparent Latch with LSTTL-Compatible Inputs; ComponentAvailability: Not for New Design; Published: 15-Apr-2002; LatestRevisionDate: 12-Dec-2006; LatestRevisionNote: IPC-7351 Footprint Added.; DatasheetVersion: Mar-2000; PackageVersion: Mar-2000; PackageReference: 948E-02; Publisher: Altium Limited; PackageDescription: 20-Pin Thin Small Outline Package 0.65 mm Pitch; ComponentLink1Description: Manufacturer Link; ComponentLink1URL: http://www.onsemi.com/; ComponentLink2Description: Datasheet; ComponentLink2URL: http://www.onsemi.com/pub/Collateral/MC74HCT573A-D.PDF
footprint 948E-02_N (TSOP, 20-Leads, Body 6.5x4.4mm, Pitch 0.65mm, IPC Medium Density)
footprint 948E-02_L (TSOP, 20-Leads, Body 6.5x4.4mm, Pitch 0.65mm, IPC High Density)
footprint 948E-02_M (TSOP, 20-Leads, Body 6.5x4.4mm, Pitch 0.65mm, IPC Low Density)
signal-integrity model MC74HCT573ADT
pins: 1 ~{OE} (in), 2 D0 (in), 3 D1 (in), 4 D2 (in), 5 D3 (in), 6 D4 (in), 7 D5 (in), 8 D6 (in), 9 D7 (in), 10 GND (power), 11 LE (in), 12 Q7 (hiz), 13 Q6 (hiz), 14 Q5 (hiz), 15 Q4 (hiz), 16 Q3 (hiz), 17 Q2 (hiz), 18 Q1 (hiz), 19 Q0 (hiz), 20 VDD (power)

## MC74HCT573ADTR2
designator U?
Octal 3-State Non-Inverting Transparent Latch with LSTTL-Compatible Inputs; Published: 15-Apr-2002; LatestRevisionDate: 12-Dec-2006; LatestRevisionNote: IPC-7351 Footprint Added.; DatasheetVersion: Mar-2000; PackageVersion: Mar-2000; PackageReference: 948E-02; Publisher: Altium Limited; PackageDescription: 20-Pin Thin Small Outline Package 0.65 mm Pitch; ComponentLink1Description: Manufacturer Link; ComponentLink1URL: http://www.onsemi.com/; ComponentLink2Description: Datasheet; ComponentLink2URL: http://www.onsemi.com/pub/Collateral/MC74HCT573A-D.PDF
footprint 948E-02_N (TSOP, 20-Leads, Body 6.5x4.4mm, Pitch 0.65mm, IPC Medium Density)
footprint 948E-02_L (TSOP, 20-Leads, Body 6.5x4.4mm, Pitch 0.65mm, IPC High Density)
footprint 948E-02_M (TSOP, 20-Leads, Body 6.5x4.4mm, Pitch 0.65mm, IPC Low Density)
signal-integrity model MC74HCT573ADTR2
pins: 1 ~{OE} (in), 2 D0 (in), 3 D1 (in), 4 D2 (in), 5 D3 (in), 6 D4 (in), 7 D5 (in), 8 D6 (in), 9 D7 (in), 10 GND (power), 11 LE (in), 12 Q7 (hiz), 13 Q6 (hiz), 14 Q5 (hiz), 15 Q4 (hiz), 16 Q3 (hiz), 17 Q2 (hiz), 18 Q1 (hiz), 19 Q0 (hiz), 20 VDD (power)

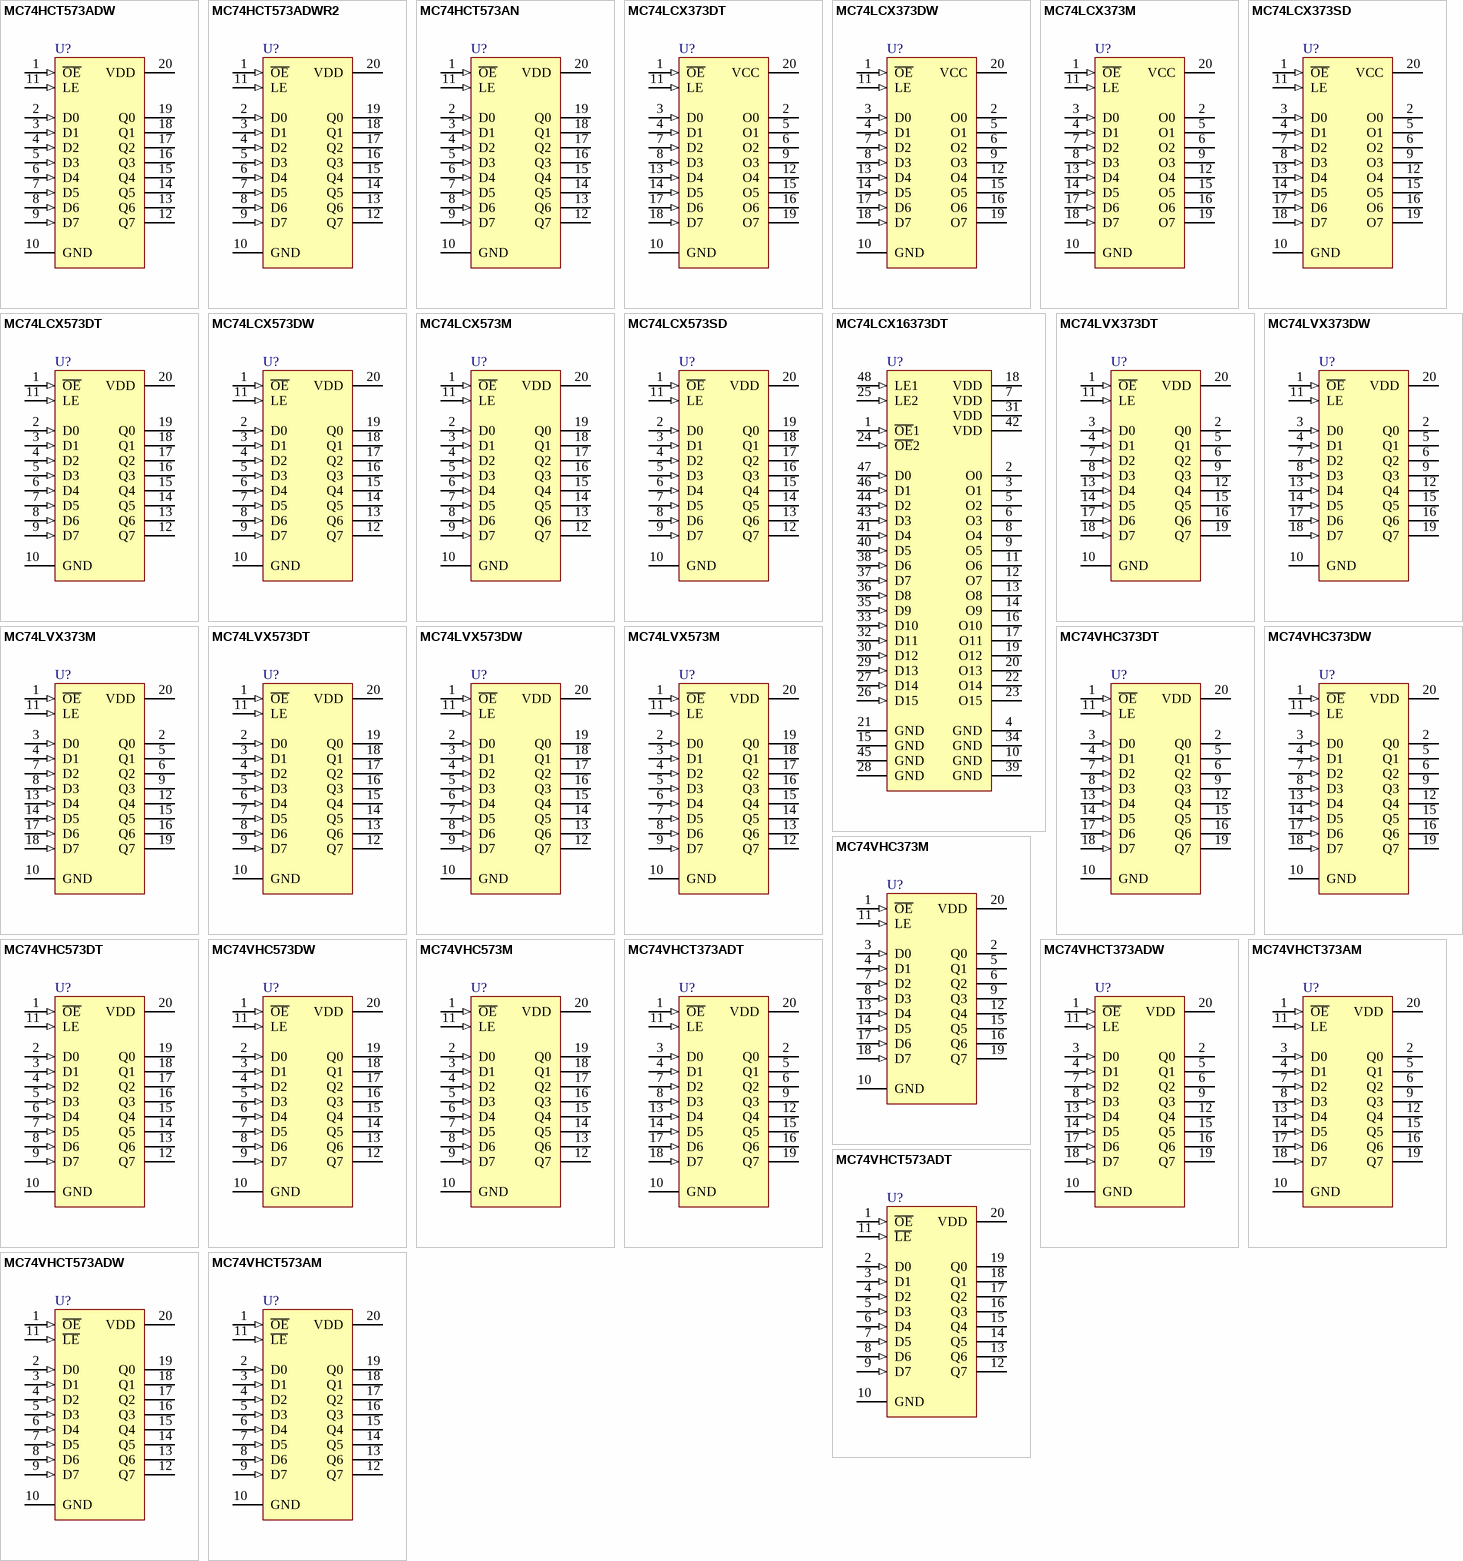
[diagram p1: symbols MC74HCT573ADW to MC74VHCT573AM]

## MC74HCT573ADW
designator U?
Octal 3-State Non-Inverting Transparent Latch with LSTTL-Compatible Inputs; Published: 15-Apr-2002; LatestRevisionDate: 13-Apr-2006; LatestRevisionNote: IPC-7351 Footprint Added.; DatasheetVersion: Mar-2000; PackageReference: 751D-05; Publisher: Altium Limited; PackageDescription: 20-Pin Small Outline Integrated Circuit 1.27 mm Pitch; ComponentLink1Description: Manufacturer Link; ComponentLink1URL: http://www.onsemi.com/; ComponentLink2Description: Datasheet; ComponentLink2URL: http://www.onsemi.com/pub/Collateral/MC74HCT573A-D.PDF
footprint 751D-05_N (SOIC, 20-Leads, Body 12.8x7.5mm, Pitch 1.27mm, IPC Medium Density)
footprint 751D-05_L (SOIC, 20-Leads, Body 12.8x7.5mm, Pitch 1.27mm, IPC High Density)
footprint 751D-05_M (SOIC, 20-Leads, Body 12.8x7.5mm, Pitch 1.27mm, IPC Low Density)
signal-integrity model MC74HCT573ADW
pins: 1 ~{OE} (in), 2 D0 (in), 3 D1 (in), 4 D2 (in), 5 D3 (in), 6 D4 (in), 7 D5 (in), 8 D6 (in), 9 D7 (in), 10 GND (power), 11 LE (in), 12 Q7 (hiz), 13 Q6 (hiz), 14 Q5 (hiz), 15 Q4 (hiz), 16 Q3 (hiz), 17 Q2 (hiz), 18 Q1 (hiz), 19 Q0 (hiz), 20 VDD (power)

## MC74HCT573ADWR2
designator U?
Octal 3-State Non-Inverting Transparent Latch with LSTTL-Compatible Inputs; Published: 15-Apr-2002; LatestRevisionDate: 13-Apr-2006; LatestRevisionNote: IPC-7351 Footprint Added.; DatasheetVersion: Mar-2000; PackageReference: 751D-05; Publisher: Altium Limited; PackageDescription: 20-Pin Small Outline Integrated Circuit 1.27 mm Pitch; ComponentLink1Description: Manufacturer Link; ComponentLink1URL: http://www.onsemi.com/; ComponentLink2Description: Datasheet; ComponentLink2URL: http://www.onsemi.com/pub/Collateral/MC74HCT573A-D.PDF
footprint 751D-05_N (SOIC, 20-Leads, Body 12.8x7.5mm, Pitch 1.27mm, IPC Medium Density)
footprint 751D-05_L (SOIC, 20-Leads, Body 12.8x7.5mm, Pitch 1.27mm, IPC High Density)
footprint 751D-05_M (SOIC, 20-Leads, Body 12.8x7.5mm, Pitch 1.27mm, IPC Low Density)
signal-integrity model MC74HCT573ADWR2
pins: 1 ~{OE} (in), 2 D0 (in), 3 D1 (in), 4 D2 (in), 5 D3 (in), 6 D4 (in), 7 D5 (in), 8 D6 (in), 9 D7 (in), 10 GND (power), 11 LE (in), 12 Q7 (hiz), 13 Q6 (hiz), 14 Q5 (hiz), 15 Q4 (hiz), 16 Q3 (hiz), 17 Q2 (hiz), 18 Q1 (hiz), 19 Q0 (hiz), 20 VDD (power)

## MC74HCT573AN
designator U?
Octal 3-State Non-Inverting Transparent Latch with LSTTL-Compatible Inputs; Published: 15-Apr-2002; DatasheetVersion: Mar-2000; PackageVersion: 1996; PackageReference: 738-03; Publisher: Altium Limited; PackageDescription: DIP; 20 Leads; Row Spacing 7.62 mm; Pitch 2.54 mm; Code_JEDEC: MS-001-AD; ComponentLink1Description: Manufacturer Link; ComponentLink1URL: http://www.onsemi.com/; ComponentLink2Description: Datasheet; ComponentLink2URL: http://www.onsemi.com/pub/Collateral/MC74HCT573A-D.PDF
footprint 738-03 (DIP; 20 Leads; Row Spacing 7.62 mm; Pitch 2.54 mm)
signal-integrity model MC74HCT573AN
pins: 1 ~{OE} (in), 2 D0 (in), 3 D1 (in), 4 D2 (in), 5 D3 (in), 6 D4 (in), 7 D5 (in), 8 D6 (in), 9 D7 (in), 10 GND (power), 11 LE (in), 12 Q7 (hiz), 13 Q6 (hiz), 14 Q5 (hiz), 15 Q4 (hiz), 16 Q3 (hiz), 17 Q2 (hiz), 18 Q1 (hiz), 19 Q0 (hiz), 20 VDD (power)

## MC74LCX373DT
designator U?
Low-Voltage Octal 3-State Non-Inverting Transparent Latch with 5V-Tolerant Inputs and Outputs; Published: 15-Apr-2002; LatestRevisionDate: 12-Dec-2006; LatestRevisionNote: IPC-7351 Footprint Added.; DatasheetVersion: 1996; PackageVersion: Mar-2000; PackageReference: 948E-02; Publisher: Altium Limited; PackageDescription: 20-Pin Thin Small Outline Package 0.65 mm Pitch; ComponentLink1Description: Manufacturer Link; ComponentLink1URL: http://www.onsemi.com/; ComponentLink2Description: Datasheet; ComponentLink2URL: http://www.onsemi.com/pub/Collateral/MC74LCX373-D.PDF
footprint 948E-02_N (TSOP, 20-Leads, Body 6.5x4.4mm, Pitch 0.65mm, IPC Medium Density)
footprint 948E-02_L (TSOP, 20-Leads, Body 6.5x4.4mm, Pitch 0.65mm, IPC High Density)
footprint 948E-02_M (TSOP, 20-Leads, Body 6.5x4.4mm, Pitch 0.65mm, IPC Low Density)
pins: 1 ~{OE} (in), 2 O0 (hiz), 3 D0 (in), 4 D1 (in), 5 O1 (hiz), 6 O2 (hiz), 7 D2 (in), 8 D3 (in), 9 O3 (hiz), 10 GND (power), 11 LE (in), 12 O4 (hiz), 13 D4 (in), 14 D5 (in), 15 O5 (hiz), 16 O6 (hiz), 17 D6 (in), 18 D7 (in), 19 O7 (hiz), 20 VCC (power)

## MC74LCX373DW
designator U?
Low-Voltage Octal 3-State Non-Inverting Transparent Latch with 5V-Tolerant Inputs and Outputs; Published: 15-Apr-2002; LatestRevisionDate: 13-Apr-2006; LatestRevisionNote: IPC-7351 Footprint Added.; DatasheetVersion: 1996; PackageReference: 751D-04; Publisher: Altium Limited; PackageDescription: 20-Pin Small Outline Integrated Circuit 1.27 mm Pitch; ComponentLink1Description: Manufacturer Link; ComponentLink1URL: http://www.onsemi.com/; ComponentLink2Description: Datasheet; ComponentLink2URL: http://www.onsemi.com/pub/Collateral/MC74LCX373-D.PDF
footprint 751D-04_N (SOIC, 20-Leads, Body 12.8x7.5mm, Pitch 1.27mm, IPC Medium Density)
footprint 751D-04_L (SOIC, 20-Leads, Body 12.8x7.5mm, Pitch 1.27mm, IPC High Density)
footprint 751D-04_M (SOIC, 20-Leads, Body 12.8x7.5mm, Pitch 1.27mm, IPC Low Density)
pins: 1 ~{OE} (in), 2 O0 (hiz), 3 D0 (in), 4 D1 (in), 5 O1 (hiz), 6 O2 (hiz), 7 D2 (in), 8 D3 (in), 9 O3 (hiz), 10 GND (power), 11 LE (in), 12 O4 (hiz), 13 D4 (in), 14 D5 (in), 15 O5 (hiz), 16 O6 (hiz), 17 D6 (in), 18 D7 (in), 19 O7 (hiz), 20 VCC (power)

## MC74LCX373M
designator U?
Low-Voltage Octal 3-State Non-Inverting Transparent Latch with 5V-Tolerant Inputs and Outputs; Published: 15-Apr-2002; LatestRevisionDate: 13-Apr-2006; LatestRevisionNote: IPC-7351 Footprint Added.; DatasheetVersion: 1996; PackageVersion: 1997; PackageReference: 967-01; Publisher: Altium Limited; PackageDescription: 20-Pin Small Outline Package 1.27 mm Pitch; ComponentLink1Description: Manufacturer Link; ComponentLink1URL: http://www.onsemi.com/; ComponentLink2Description: Datasheet; ComponentLink2URL: http://www.onsemi.com/pub/Collateral/MC74LCX373-D.PDF
footprint 967-01_N (SOP, 20-Leads, Body 12.6x5.3mm, Pitch 1.27mm, IPC Medium Density)
footprint 967-01_L (SOP, 20-Leads, Body 12.6x5.3mm, Pitch 1.27mm, IPC High Density)
footprint 967-01_M (SOP, 20-Leads, Body 12.6x5.3mm, Pitch 1.27mm, IPC Low Density)
pins: 1 ~{OE} (in), 2 O0 (hiz), 3 D0 (in), 4 D1 (in), 5 O1 (hiz), 6 O2 (hiz), 7 D2 (in), 8 D3 (in), 9 O3 (hiz), 10 GND (power), 11 LE (in), 12 O4 (hiz), 13 D4 (in), 14 D5 (in), 15 O5 (hiz), 16 O6 (hiz), 17 D6 (in), 18 D7 (in), 19 O7 (hiz), 20 VCC (power)

## MC74LCX373SD
designator U?
Low-Voltage Octal 3-State Non-Inverting Transparent Latch with 5V-Tolerant Inputs and Outputs; Published: 15-Apr-2002; LatestRevisionDate: 12-Dec-2006; LatestRevisionNote: IPC-7351 Footprint Added.; DatasheetVersion: 1996; PackageVersion: 1996; PackageReference: 940C-03; Publisher: Altium Limited; PackageDescription: 20-Pin Small Outline Package 0.65 mm Pitch; Code_JEDEC: MO-150-AE; Code_IPC: SOP65P780-20; ComponentLink1Description: Manufacturer Link; ComponentLink1URL: http://www.onsemi.com/; ComponentLink2Description: Datasheet; ComponentLink2URL: http://www.onsemi.com/pub/Collateral/MC74LCX373-D.PDF
footprint 940C-03_N (SOP, 20-Leads, Body 7.2x5.3mm, Pitch 0.65mm, IPC Medium Density)
footprint 940C-03_L (SOP, 20-Leads, Body 7.2x5.3mm, Pitch 0.65mm, IPC High Density)
footprint 940C-03_M (SOP, 20-Leads, Body 7.2x5.3mm, Pitch 0.65mm, IPC Low Density)
pins: 1 ~{OE} (in), 2 O0 (hiz), 3 D0 (in), 4 D1 (in), 5 O1 (hiz), 6 O2 (hiz), 7 D2 (in), 8 D3 (in), 9 O3 (hiz), 10 GND (power), 11 LE (in), 12 O4 (hiz), 13 D4 (in), 14 D5 (in), 15 O5 (hiz), 16 O6 (hiz), 17 D6 (in), 18 D7 (in), 19 O7 (hiz), 20 VCC (power)

## MC74LCX573DT
designator U?
Octal D-Type Latch 3-State with 5V-Tolerant Inputs; Published: 15-Apr-2002; LatestRevisionDate: 12-Dec-2006; LatestRevisionNote: IPC-7351 Footprint Added.; DatasheetVersion: 1997; PackageVersion: Mar-2000; PackageReference: 948E-02; Publisher: Altium Limited; PackageDescription: 20-Pin Thin Small Outline Package 0.65 mm Pitch; ComponentLink1Description: Manufacturer Link; ComponentLink1URL: http://www.onsemi.com/; ComponentLink2Description: Datasheet; ComponentLink2URL: http://www.onsemi.com/pub/Collateral/MC74LCX573-D.PDF
footprint 948E-02_N (TSOP, 20-Leads, Body 6.5x4.4mm, Pitch 0.65mm, IPC Medium Density)
footprint 948E-02_L (TSOP, 20-Leads, Body 6.5x4.4mm, Pitch 0.65mm, IPC High Density)
footprint 948E-02_M (TSOP, 20-Leads, Body 6.5x4.4mm, Pitch 0.65mm, IPC Low Density)
pins: 1 ~{OE} (in), 2 D0 (in), 3 D1 (in), 4 D2 (in), 5 D3 (in), 6 D4 (in), 7 D5 (in), 8 D6 (in), 9 D7 (in), 10 GND (power), 11 LE (in), 12 Q7 (hiz), 13 Q6 (hiz), 14 Q5 (hiz), 15 Q4 (hiz), 16 Q3 (hiz), 17 Q2 (hiz), 18 Q1 (hiz), 19 Q0 (hiz), 20 VDD (power)

## MC74LCX573DW
designator U?
Octal D-Type Latch 3-State with 5V-Tolerant Inputs; Published: 15-Apr-2002; LatestRevisionDate: 13-Apr-2006; LatestRevisionNote: IPC-7351 Footprint Added.; DatasheetVersion: 1997; PackageReference: 751D-04; Publisher: Altium Limited; PackageDescription: 20-Pin Small Outline Integrated Circuit 1.27 mm Pitch; ComponentLink1Description: Manufacturer Link; ComponentLink1URL: http://www.onsemi.com/; ComponentLink2Description: Datasheet; ComponentLink2URL: http://www.onsemi.com/pub/Collateral/MC74LCX573-D.PDF
footprint 751D-04_N (SOIC, 20-Leads, Body 12.8x7.5mm, Pitch 1.27mm, IPC Medium Density)
footprint 751D-04_L (SOIC, 20-Leads, Body 12.8x7.5mm, Pitch 1.27mm, IPC High Density)
footprint 751D-04_M (SOIC, 20-Leads, Body 12.8x7.5mm, Pitch 1.27mm, IPC Low Density)
pins: 1 ~{OE} (in), 2 D0 (in), 3 D1 (in), 4 D2 (in), 5 D3 (in), 6 D4 (in), 7 D5 (in), 8 D6 (in), 9 D7 (in), 10 GND (power), 11 LE (in), 12 Q7 (hiz), 13 Q6 (hiz), 14 Q5 (hiz), 15 Q4 (hiz), 16 Q3 (hiz), 17 Q2 (hiz), 18 Q1 (hiz), 19 Q0 (hiz), 20 VDD (power)

## MC74LCX573M
designator U?
Octal D-Type Latch 3-State with 5V-Tolerant Inputs; Published: 15-Apr-2002; LatestRevisionDate: 13-Apr-2006; LatestRevisionNote: IPC-7351 Footprint Added.; DatasheetVersion: 1997; PackageVersion: 1997; PackageReference: 967-01; Publisher: Altium Limited; PackageDescription: 20-Pin Small Outline Package 1.27 mm Pitch; ComponentLink1Description: Manufacturer Link; ComponentLink1URL: http://www.onsemi.com/; ComponentLink2Description: Datasheet; ComponentLink2URL: http://www.onsemi.com/pub/Collateral/MC74LCX573-D.PDF
footprint 967-01_N (SOP, 20-Leads, Body 12.6x5.3mm, Pitch 1.27mm, IPC Medium Density)
footprint 967-01_L (SOP, 20-Leads, Body 12.6x5.3mm, Pitch 1.27mm, IPC High Density)
footprint 967-01_M (SOP, 20-Leads, Body 12.6x5.3mm, Pitch 1.27mm, IPC Low Density)
pins: 1 ~{OE} (in), 2 D0 (in), 3 D1 (in), 4 D2 (in), 5 D3 (in), 6 D4 (in), 7 D5 (in), 8 D6 (in), 9 D7 (in), 10 GND (power), 11 LE (in), 12 Q7 (hiz), 13 Q6 (hiz), 14 Q5 (hiz), 15 Q4 (hiz), 16 Q3 (hiz), 17 Q2 (hiz), 18 Q1 (hiz), 19 Q0 (hiz), 20 VDD (power)

## MC74LCX573SD
designator U?
Octal D-Type Latch 3-State with 5V-Tolerant Inputs; Published: 15-Apr-2002; LatestRevisionDate: 12-Dec-2006; LatestRevisionNote: IPC-7351 Footprint Added.; DatasheetVersion: 1997; PackageVersion: 1996; PackageReference: 940C-03; Publisher: Altium Limited; PackageDescription: 20-Pin Small Outline Package 0.65 mm Pitch; Code_JEDEC: MO-150-AE; Code_IPC: SOP65P780-20; ComponentLink1Description: Manufacturer Link; ComponentLink1URL: http://www.onsemi.com/; ComponentLink2Description: Datasheet; ComponentLink2URL: http://www.onsemi.com/pub/Collateral/MC74LCX573-D.PDF
footprint 940C-03_N (SOP, 20-Leads, Body 7.2x5.3mm, Pitch 0.65mm, IPC Medium Density)
footprint 940C-03_L (SOP, 20-Leads, Body 7.2x5.3mm, Pitch 0.65mm, IPC High Density)
footprint 940C-03_M (SOP, 20-Leads, Body 7.2x5.3mm, Pitch 0.65mm, IPC Low Density)
pins: 1 ~{OE} (in), 2 D0 (in), 3 D1 (in), 4 D2 (in), 5 D3 (in), 6 D4 (in), 7 D5 (in), 8 D6 (in), 9 D7 (in), 10 GND (power), 11 LE (in), 12 Q7 (hiz), 13 Q6 (hiz), 14 Q5 (hiz), 15 Q4 (hiz), 16 Q3 (hiz), 17 Q2 (hiz), 18 Q1 (hiz), 19 Q0 (hiz), 20 VDD (power)

## MC74LCX16373DT
designator U?
Low-Voltage 16-Bit 3-State Non-Inverting Transparent Latch with 5V-Tolerant Inputs and Outputs; Published: 15-Apr-2002; LatestRevisionDate: 12-Dec-2006; LatestRevisionNote: IPC-7351 Footprint Added.; DatasheetVersion: 1996; PackageVersion: 1995; PackageReference: 1201-01; Publisher: Altium Limited; PackageDescription: 48-Pin Thin Shrink Small Outline Package 0.5 mm Pitch; ComponentLink1Description: Manufacturer Link; ComponentLink1URL: http://www.onsemi.com/; ComponentLink2Description: Datasheet; ComponentLink2URL: http://www.onsemi.com/pub/Collateral/MC74LCX16373-D.PDF
footprint 1201-01_N (TSSOP, 48-Leads, Body 12.5x6.1mm, Pitch 0.5mm, IPC Medium Density)
footprint 1201-01_L (TSSOP, 48-Leads, Body 12.5x6.1mm, Pitch 0.5mm, IPC High Density)
footprint 1201-01_M (TSSOP, 48-Leads, Body 12.5x6.1mm, Pitch 0.5mm, IPC Low Density)
pins: 1 ~{OE}1 (in), 2 O0 (hiz), 3 O1 (hiz), 4 GND (power), 5 O2 (hiz), 6 O3 (hiz), 7 VDD (power), 8 O4 (hiz), 9 O5 (hiz), 10 GND (power), 11 O6 (hiz), 12 O7 (hiz), 13 O8 (hiz), 14 O9 (hiz), 15 GND (power), 16 O10 (hiz), 17 O11 (hiz), 18 VDD (power), 19 O12 (hiz), 20 O13 (hiz), 21 GND (power), 22 O14 (hiz), 23 O15 (hiz), 24 ~{OE}2 (in), 25 LE2 (in), 26 D15 (in), 27 D14 (in), 28 GND (power), 29 D13 (in), 30 D12 (in), 31 VDD (power), 32 D11 (in), 33 D10 (in), 34 GND (power), 35 D9 (in), 36 D8 (in), 37 D7 (in), 38 D6 (in), 39 GND (power), 40 D5 (in), 41 D4 (in), 42 VDD (power), 43 D3 (in), 44 D2 (in), 45 GND (power), 46 D1 (in), 47 D0 (in), 48 LE1 (in)

## MC74LVX373DT
designator U?
Octal D-Type Latch with 3-State Outputs with 5V-Tolerant Inputs; ComponentAvailability: Not for New Design; Published: 15-Apr-2002; LatestRevisionDate: 12-Dec-2006; LatestRevisionNote: IPC-7351 Footprint Added.; DatasheetVersion: 1997; PackageVersion: Mar-2000; PackageReference: 948E-02; Publisher: Altium Limited; PackageDescription: 20-Pin Thin Small Outline Package 0.65 mm Pitch; ComponentLink1Description: Manufacturer Link; ComponentLink1URL: http://www.onsemi.com/; ComponentLink2Description: Datasheet; ComponentLink2URL: http://www.onsemi.com/pub/Collateral/MC74LVX373-D.PDF
footprint 948E-02_N (TSOP, 20-Leads, Body 6.5x4.4mm, Pitch 0.65mm, IPC Medium Density)
footprint 948E-02_L (TSOP, 20-Leads, Body 6.5x4.4mm, Pitch 0.65mm, IPC High Density)
footprint 948E-02_M (TSOP, 20-Leads, Body 6.5x4.4mm, Pitch 0.65mm, IPC Low Density)
pins: 1 ~{OE} (in), 2 Q0 (hiz), 3 D0 (in), 4 D1 (in), 5 Q1 (hiz), 6 Q2 (hiz), 7 D2 (in), 8 D3 (in), 9 Q3 (hiz), 10 GND (power), 11 LE (in), 12 Q4 (hiz), 13 D4 (in), 14 D5 (in), 15 Q5 (hiz), 16 Q6 (hiz), 17 D6 (in), 18 D7 (in), 19 Q7 (hiz), 20 VDD (power)

## MC74LVX373DW
designator U?
Octal D-Type Latch with 3-State Outputs with 5V-Tolerant Inputs; ComponentAvailability: Not for New Design; Published: 15-Apr-2002; LatestRevisionDate: 13-Apr-2006; LatestRevisionNote: IPC-7351 Footprint Added.; DatasheetVersion: 1997; PackageReference: 751D-04; Publisher: Altium Limited; PackageDescription: 20-Pin Small Outline Integrated Circuit 1.27 mm Pitch; ComponentLink1Description: Manufacturer Link; ComponentLink1URL: http://www.onsemi.com/; ComponentLink2Description: Datasheet; ComponentLink2URL: http://www.onsemi.com/pub/Collateral/MC74LVX373-D.PDF
footprint 751D-04_N (SOIC, 20-Leads, Body 12.8x7.5mm, Pitch 1.27mm, IPC Medium Density)
footprint 751D-04_L (SOIC, 20-Leads, Body 12.8x7.5mm, Pitch 1.27mm, IPC High Density)
footprint 751D-04_M (SOIC, 20-Leads, Body 12.8x7.5mm, Pitch 1.27mm, IPC Low Density)
pins: 1 ~{OE} (in), 2 Q0 (hiz), 3 D0 (in), 4 D1 (in), 5 Q1 (hiz), 6 Q2 (hiz), 7 D2 (in), 8 D3 (in), 9 Q3 (hiz), 10 GND (power), 11 LE (in), 12 Q4 (hiz), 13 D4 (in), 14 D5 (in), 15 Q5 (hiz), 16 Q6 (hiz), 17 D6 (in), 18 D7 (in), 19 Q7 (hiz), 20 VDD (power)

## MC74LVX373M
designator U?
Octal D-Type Latch with 3-State Outputs with 5V-Tolerant Inputs; Published: 15-Apr-2002; LatestRevisionDate: 13-Apr-2006; LatestRevisionNote: IPC-7351 Footprint Added.; DatasheetVersion: 1997; PackageVersion: 1997; PackageReference: 967-01; Publisher: Altium Limited; PackageDescription: 20-Pin Small Outline Package 1.27 mm Pitch; ComponentLink1Description: Manufacturer Link; ComponentLink1URL: http://www.onsemi.com/; ComponentLink2Description: Datasheet; ComponentLink2URL: http://www.onsemi.com/pub/Collateral/MC74LVX373-D.PDF
footprint 967-01_N (SOP, 20-Leads, Body 12.6x5.3mm, Pitch 1.27mm, IPC Medium Density)
footprint 967-01_L (SOP, 20-Leads, Body 12.6x5.3mm, Pitch 1.27mm, IPC High Density)
footprint 967-01_M (SOP, 20-Leads, Body 12.6x5.3mm, Pitch 1.27mm, IPC Low Density)
pins: 1 ~{OE} (in), 2 Q0 (hiz), 3 D0 (in), 4 D1 (in), 5 Q1 (hiz), 6 Q2 (hiz), 7 D2 (in), 8 D3 (in), 9 Q3 (hiz), 10 GND (power), 11 LE (in), 12 Q4 (hiz), 13 D4 (in), 14 D5 (in), 15 Q5 (hiz), 16 Q6 (hiz), 17 D6 (in), 18 D7 (in), 19 Q7 (hiz), 20 VDD (power)